# Altium footprint library MergenElektronik_Connectors_TerminalConnectors_JSTConnectors.PcbLib: 6 footprints
Each footprint in its own frame and in the unit in brackets; x right, y up, seen from the top. Pads: shape width x height; smd on the part's side, far side on the other; paste and mask are expansions set on the pad; w line width, h text height; cw(c..) or ccw(c..) is an arc to the next point about the centre after c.
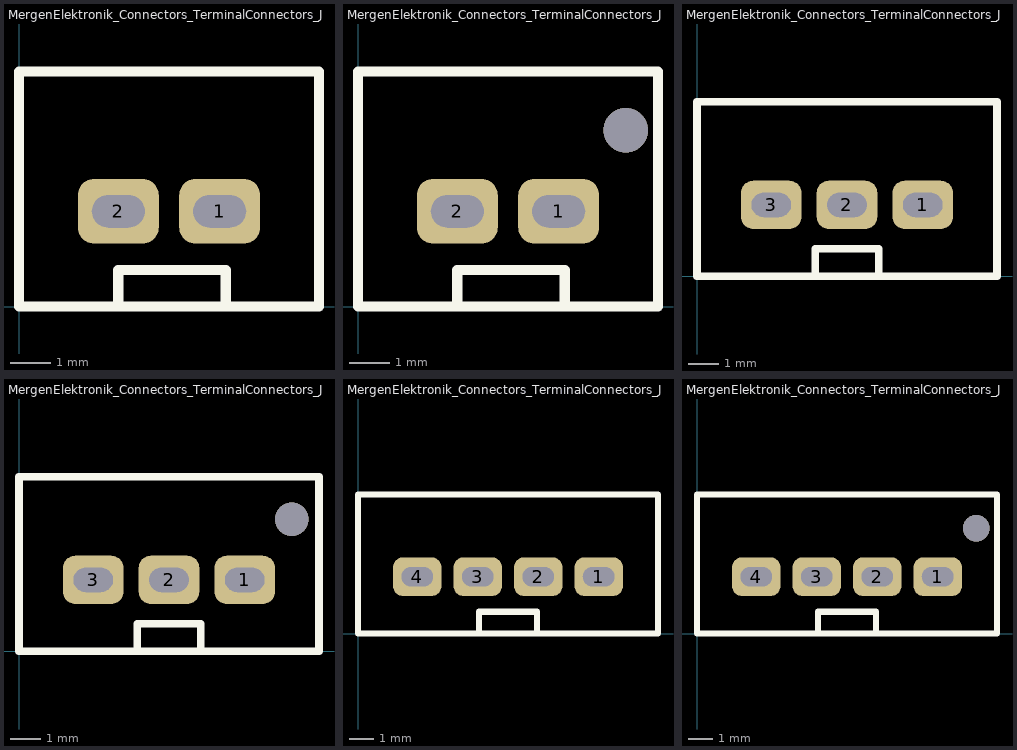
[diagram p0: the footprints below, top view; thin cyan lines are the x and y axes]

## MergenElektronik_Connectors_TerminalConnectors_JSTConnectors_B2B-XH-A [mm] "B2B-XH-A"
pads (2):
  rrect50% 2x1.6 hole 0.8 slot 1.3 at 0 deg: 1(4.95,2.35) 2(2.45,2.35)
Top Overlay:
  lines w0.254: 2.45,0 2.45,0.9 5.1,0.9 5.1,0 ; 7.4,0 7.4,5.8 0,5.8 0,0 7.4,0 ; 7.4,0 7.4,0
3D body: height 7, standoff -3.5, extent 0.05,-0.05 7.45,5.7

## MergenElektronik_Connectors_TerminalConnectors_JSTConnectors_B2B-XH-AM [mm] "B2B-XH-AM"
pads (2):
  rrect50% 2x1.6 hole 0.8 slot 1.3 at 0 deg: 1(4.95,2.35) 2(2.45,2.35)
via 6.6,4.35 diameter 1.1 hole 1.1
Top Overlay:
  lines w0.254: 2.45,0 2.45,0.9 5.1,0.9 5.1,0 ; 7.4,0 7.4,5.8 0,5.8 0,0 7.4,0 ; 7.4,0 7.4,0
3D body: height 7, standoff -3.5, extent 0.05,-0.05 7.45,5.7

## MergenElektronik_Connectors_TerminalConnectors_JSTConnectors_B3B-XH-A [mm] "B3B-XH-A"
pads (3):
  rrect50% 2x1.6 hole 0.8 slot 1.3 at 0 deg: 1(7.45,2.35) 2(4.95,2.35) 3(2.45,2.35)
Top Overlay:
  lines w0.254: 3.9,0 3.9,0.9 5.1,0.9 6,0.9 6,0 ; 0,0 0,5.75 9.9,5.75 9.9,0 0,0
3D body: height 7, standoff -3.5, extent 0,0 9.9,5.75

## MergenElektronik_Connectors_TerminalConnectors_JSTConnectors_B3B-XH-AM [mm] "B3B-XH-AM"
pads (3):
  rrect50% 2x1.6 hole 0.8 slot 1.3 at 0 deg: 1(7.45,2.35) 2(4.95,2.35) 3(2.45,2.35)
via 9,4.35 diameter 1.1 hole 1.1
Top Overlay:
  lines w0.254: 3.9,0 3.9,0.9 5.1,0.9 6,0.9 6,0 ; 0,0 0,5.75 9.9,5.75 9.9,0 0,0
3D body: height 7, standoff -3.5, extent 0,0 9.9,5.75

## MergenElektronik_Connectors_TerminalConnectors_JSTConnectors_B4B-XH-A [mm] "B4B-XH-A"
pads (4):
  rrect50% 2x1.6 hole 0.8 slot 1.3 at 0 deg: 1(9.95,2.35) 2(7.45,2.35) 3(4.95,2.35) 4(2.45,2.35)
Top Overlay:
  lines w0.254: 5,0 5,0.9 5.1,0.9 7.4,0.9 7.4,0 ; 0,0 0,5.75 12.4,5.75 12.4,0 0,0
3D body: height 7, standoff -3.5, extent 0.05,-0.05 12.45,5.7

## MergenElektronik_Connectors_TerminalConnectors_JSTConnectors_B4B-XH-AM [mm] "B4B-XH-AM"
pads (4):
  rrect50% 2x1.6 hole 0.8 slot 1.3 at 0 deg: 1(9.95,2.35) 2(7.45,2.35) 3(4.95,2.35) 4(2.45,2.35)
via 11.55,4.35 diameter 1.1 hole 1.1
Top Overlay:
  lines w0.254: 5,0 5,0.9 5.1,0.9 7.4,0.9 7.4,0 ; 0,0 0,5.75 12.4,5.75 12.4,0 0,0
3D body: height 7, standoff -3.5, extent 0.05,-0.05 12.45,5.7